# Altium footprint library ST-Microelectronics Footprints.PcbLib: 320 footprints (part 13 of 20)
Each footprint in its own frame and in the unit in brackets; x right, y up, seen from the top. Pads: shape width x height; smd on the part's side, far side on the other; paste and mask are expansions set on the pad; w line width, h text height; cw(c..) or ccw(c..) is an arc to the next point about the centre after c.
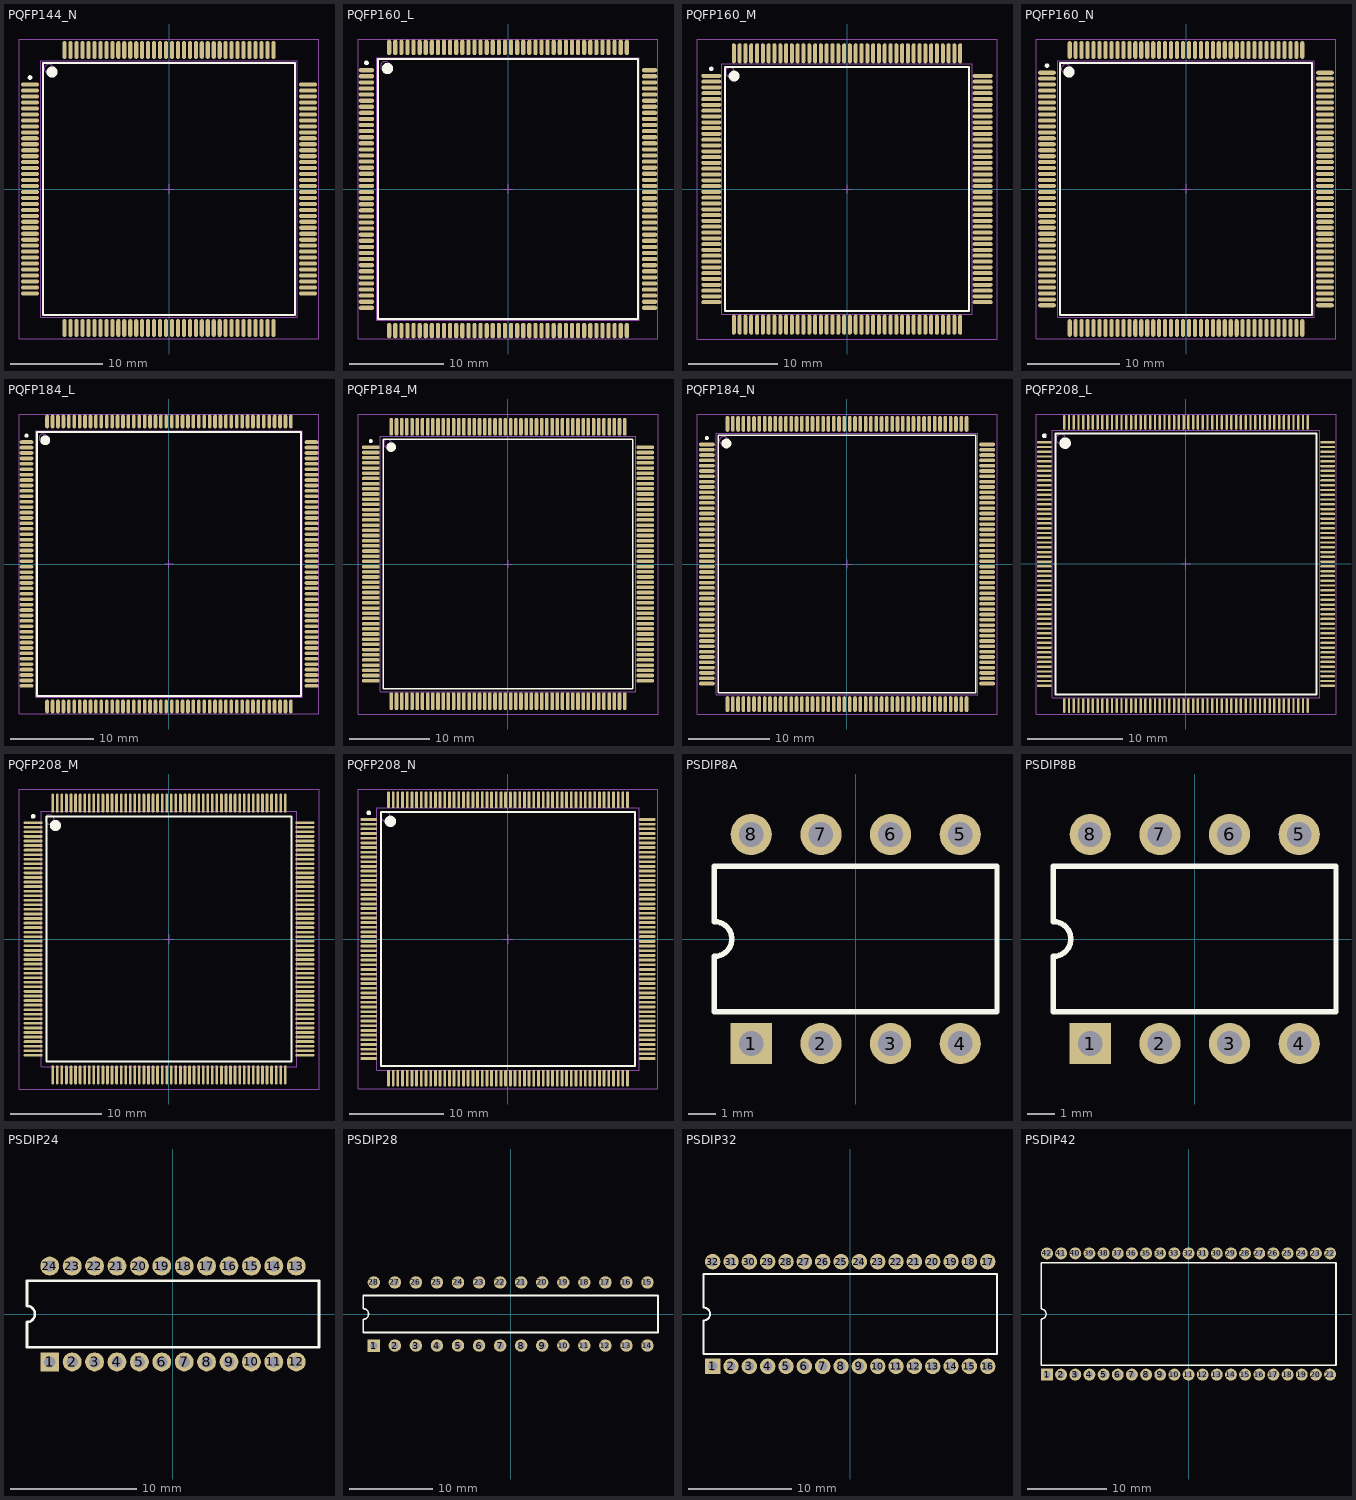
[diagram p12: the footprints below, top view; thin cyan lines are the x and y axes]

## PQFP144_N [mm] "144-Pin Quad Flat Pack 0.65 mm Pitch, IPC Medium Density"
height 4.07
pads (144):
  oval 1.95x0.45 smd: 1(-15.15,11.375) 2(-15.15,10.725) 3(-15.15,10.075) 4(-15.15,9.425) 5(-15.15,8.775) 6(-15.15,8.125) 7(-15.15,7.475) 8(-15.15,6.825) 9(-15.15,6.175) 10(-15.15,5.525) 11(-15.15,4.875) 12(-15.15,4.225) 13(-15.15,3.575) 14(-15.15,2.925) 15(-15.15,2.275) 16(-15.15,1.625) 17(-15.15,0.975) 18(-15.15,0.325) 19(-15.15,-0.325) 20(-15.15,-0.975) 21(-15.15,-1.625) 22(-15.15,-2.275) 23(-15.15,-2.925) 24(-15.15,-3.575) 25(-15.15,-4.225) 26(-15.15,-4.875) 27(-15.15,-5.525) 28(-15.15,-6.175) 29(-15.15,-6.825) 30(-15.15,-7.475) 31(-15.15,-8.125) 32(-15.15,-8.775) 33(-15.15,-9.425) 34(-15.15,-10.075) 35(-15.15,-10.725) 36(-15.15,-11.375) 73(15.15,-11.375) 74(15.15,-10.725) 75(15.15,-10.075) 76(15.15,-9.425) 77(15.15,-8.775) 78(15.15,-8.125) 79(15.15,-7.475) 80(15.15,-6.825) 81(15.15,-6.175) 82(15.15,-5.525) 83(15.15,-4.875) 84(15.15,-4.225) 85(15.15,-3.575) 86(15.15,-2.925) 87(15.15,-2.275) 88(15.15,-1.625) 89(15.15,-0.975) 90(15.15,-0.325) 91(15.15,0.325) 92(15.15,0.975) 93(15.15,1.625) 94(15.15,2.275) 95(15.15,2.925) 96(15.15,3.575) 97(15.15,4.225) 98(15.15,4.875) 99(15.15,5.525) 100(15.15,6.175) 101(15.15,6.825) 102(15.15,7.475) 103(15.15,8.125) 104(15.15,8.775) 105(15.15,9.425) 106(15.15,10.075) 107(15.15,10.725) 108(15.15,11.375)
  oval 0.45x1.95 smd: 37(-11.375,-15.15) 38(-10.725,-15.15) 39(-10.075,-15.15) 40(-9.425,-15.15) 41(-8.775,-15.15) 42(-8.125,-15.15) 43(-7.475,-15.15) 44(-6.825,-15.15) 45(-6.175,-15.15) 46(-5.525,-15.15) 47(-4.875,-15.15) 48(-4.225,-15.15) 49(-3.575,-15.15) 50(-2.925,-15.15) 51(-2.275,-15.15) 52(-1.625,-15.15) 53(-0.975,-15.15) 54(-0.325,-15.15) 55(0.325,-15.15) 56(0.975,-15.15) 57(1.625,-15.15) 58(2.275,-15.15) 59(2.925,-15.15) 60(3.575,-15.15) 61(4.225,-15.15) 62(4.875,-15.15) 63(5.525,-15.15) 64(6.175,-15.15) 65(6.825,-15.15) 66(7.475,-15.15) 67(8.125,-15.15) 68(8.775,-15.15) 69(9.425,-15.15) 70(10.075,-15.15) 71(10.725,-15.15) 72(11.375,-15.15) 109(11.375,15.15) 110(10.725,15.15) 111(10.075,15.15) 112(9.425,15.15) 113(8.775,15.15) 114(8.125,15.15) 115(7.475,15.15) 116(6.825,15.15) 117(6.175,15.15) 118(5.525,15.15) 119(4.875,15.15) 120(4.225,15.15) 121(3.575,15.15) 122(2.925,15.15) 123(2.275,15.15) 124(1.625,15.15) 125(0.975,15.15) 126(0.325,15.15) 127(-0.325,15.15) 128(-0.975,15.15) 129(-1.625,15.15) 130(-2.275,15.15) 131(-2.925,15.15) 132(-3.575,15.15) 133(-4.225,15.15) 134(-4.875,15.15) 135(-5.525,15.15) 136(-6.175,15.15) 137(-6.825,15.15) 138(-7.475,15.15) 139(-8.125,15.15) 140(-8.775,15.15) 141(-9.425,15.15) 142(-10.075,15.15) 143(-10.725,15.15) 144(-11.375,15.15)
Top Overlay:
  circle w0.6: c-12.75,12.75 r0.3
  circle w0.25: c-15.15,12.15 r0.125
  lines w0.2: -13.75,-13.75 13.75,-13.75 13.75,13.75 -13.75,13.75 -13.75,-13.75
Mechanical 13:
  circle w0.1: c-13.1,13.1 r0.5
  lines w0.1: -14,-14 14,-14 14,14 -14,14 -14,-14
Mechanical 15:
  lines w0.1: -0.5,0 0.5,0 ; 0,-0.5 0,0.5 ; -16.35,-16.35 16.35,-16.35 16.35,16.35 -16.35,16.35 -16.35,-16.35
3D body: height 4.07, standoff 0, extent -14,-14 14,14

## PQFP160_L [mm] "160-Pin Plastic Quad Flat Pack 0.65 mm Pitch, IPC High Density"
height 4.07
pads (160):
  oval 1.65x0.45 smd: 1(-15.1,12.675) 2(-15.1,12.025) 3(-15.1,11.375) 4(-15.1,10.725) 5(-15.1,10.075) 6(-15.1,9.425) 7(-15.1,8.775) 8(-15.1,8.125) 9(-15.1,7.475) 10(-15.1,6.825) 11(-15.1,6.175) 12(-15.1,5.525) 13(-15.1,4.875) 14(-15.1,4.225) 15(-15.1,3.575) 16(-15.1,2.925) 17(-15.1,2.275) 18(-15.1,1.625) 19(-15.1,0.975) 20(-15.1,0.325) 21(-15.1,-0.325) 22(-15.1,-0.975) 23(-15.1,-1.625) 24(-15.1,-2.275) 25(-15.1,-2.925) 26(-15.1,-3.575) 27(-15.1,-4.225) 28(-15.1,-4.875) 29(-15.1,-5.525) 30(-15.1,-6.175) 31(-15.1,-6.825) 32(-15.1,-7.475) 33(-15.1,-8.125) 34(-15.1,-8.775) 35(-15.1,-9.425) 36(-15.1,-10.075) 37(-15.1,-10.725) 38(-15.1,-11.375) 39(-15.1,-12.025) 40(-15.1,-12.675) 81(15.1,-12.675) 82(15.1,-12.025) 83(15.1,-11.375) 84(15.1,-10.725) 85(15.1,-10.075) 86(15.1,-9.425) 87(15.1,-8.775) 88(15.1,-8.125) 89(15.1,-7.475) 90(15.1,-6.825) 91(15.1,-6.175) 92(15.1,-5.525) 93(15.1,-4.875) 94(15.1,-4.225) 95(15.1,-3.575) 96(15.1,-2.925) 97(15.1,-2.275) 98(15.1,-1.625) 99(15.1,-0.975) 100(15.1,-0.325) 101(15.1,0.325) 102(15.1,0.975) 103(15.1,1.625) 104(15.1,2.275) 105(15.1,2.925) 106(15.1,3.575) 107(15.1,4.225) 108(15.1,4.875) 109(15.1,5.525) 110(15.1,6.175) 111(15.1,6.825) 112(15.1,7.475) 113(15.1,8.125) 114(15.1,8.775) 115(15.1,9.425) 116(15.1,10.075) 117(15.1,10.725) 118(15.1,11.375) 119(15.1,12.025) 120(15.1,12.675)
  oval 0.45x1.65 smd: 41(-12.675,-15.1) 42(-12.025,-15.1) 43(-11.375,-15.1) 44(-10.725,-15.1) 45(-10.075,-15.1) 46(-9.425,-15.1) 47(-8.775,-15.1) 48(-8.125,-15.1) 49(-7.475,-15.1) 50(-6.825,-15.1) 51(-6.175,-15.1) 52(-5.525,-15.1) 53(-4.875,-15.1) 54(-4.225,-15.1) 55(-3.575,-15.1) 56(-2.925,-15.1) 57(-2.275,-15.1) 58(-1.625,-15.1) 59(-0.975,-15.1) 60(-0.325,-15.1) 61(0.325,-15.1) 62(0.975,-15.1) 63(1.625,-15.1) 64(2.275,-15.1) 65(2.925,-15.1) 66(3.575,-15.1) 67(4.225,-15.1) 68(4.875,-15.1) 69(5.525,-15.1) 70(6.175,-15.1) 71(6.825,-15.1) 72(7.475,-15.1) 73(8.125,-15.1) 74(8.775,-15.1) 75(9.425,-15.1) 76(10.075,-15.1) 77(10.725,-15.1) 78(11.375,-15.1) 79(12.025,-15.1) 80(12.675,-15.1) 121(12.675,15.1) 122(12.025,15.1) 123(11.375,15.1) 124(10.725,15.1) 125(10.075,15.1) 126(9.425,15.1) 127(8.775,15.1) 128(8.125,15.1) 129(7.475,15.1) 130(6.825,15.1) 131(6.175,15.1) 132(5.525,15.1) 133(4.875,15.1) 134(4.225,15.1) 135(3.575,15.1) 136(2.925,15.1) 137(2.275,15.1) 138(1.625,15.1) 139(0.975,15.1) 140(0.325,15.1) 141(-0.325,15.1) 142(-0.975,15.1) 143(-1.625,15.1) 144(-2.275,15.1) 145(-2.925,15.1) 146(-3.575,15.1) 147(-4.225,15.1) 148(-4.875,15.1) 149(-5.525,15.1) 150(-6.175,15.1) 151(-6.825,15.1) 152(-7.475,15.1) 153(-8.125,15.1) 154(-8.775,15.1) 155(-9.425,15.1) 156(-10.075,15.1) 157(-10.725,15.1) 158(-11.375,15.1) 159(-12.025,15.1) 160(-12.675,15.1)
Top Overlay:
  circle w0.6: c-12.85,12.85 r0.3
  circle w0.25: c-15.1,13.45 r0.125
  lines w0.2: -13.85,-13.85 13.85,-13.85 13.85,13.85 -13.85,13.85 -13.85,-13.85
Mechanical 13:
  circle w0.1: c-13.1,13.1 r0.5
  lines w0.1: -14,-14 14,-14 14,14 -14,14 -14,-14
Mechanical 15:
  lines w0.1: -0.5,0 0.5,0 ; 0,-0.5 0,0.5 ; -16,-16 16,-16 16,16 -16,16 -16,-16
3D body: height 4.07, standoff 0, extent -14,-14 14,14

## PQFP160_M [mm] "160-Pin Plastic Quad Flat Pack 0.65 mm Pitch, IPC Low Density"
height 4.07
pads (160):
  oval 2.25x0.45 smd: 1(-15.2,12.675) 2(-15.2,12.025) 3(-15.2,11.375) 4(-15.2,10.725) 5(-15.2,10.075) 6(-15.2,9.425) 7(-15.2,8.775) 8(-15.2,8.125) 9(-15.2,7.475) 10(-15.2,6.825) 11(-15.2,6.175) 12(-15.2,5.525) 13(-15.2,4.875) 14(-15.2,4.225) 15(-15.2,3.575) 16(-15.2,2.925) 17(-15.2,2.275) 18(-15.2,1.625) 19(-15.2,0.975) 20(-15.2,0.325) 21(-15.2,-0.325) 22(-15.2,-0.975) 23(-15.2,-1.625) 24(-15.2,-2.275) 25(-15.2,-2.925) 26(-15.2,-3.575) 27(-15.2,-4.225) 28(-15.2,-4.875) 29(-15.2,-5.525) 30(-15.2,-6.175) 31(-15.2,-6.825) 32(-15.2,-7.475) 33(-15.2,-8.125) 34(-15.2,-8.775) 35(-15.2,-9.425) 36(-15.2,-10.075) 37(-15.2,-10.725) 38(-15.2,-11.375) 39(-15.2,-12.025) 40(-15.2,-12.675) 81(15.2,-12.675) 82(15.2,-12.025) 83(15.2,-11.375) 84(15.2,-10.725) 85(15.2,-10.075) 86(15.2,-9.425) 87(15.2,-8.775) 88(15.2,-8.125) 89(15.2,-7.475) 90(15.2,-6.825) 91(15.2,-6.175) 92(15.2,-5.525) 93(15.2,-4.875) 94(15.2,-4.225) 95(15.2,-3.575) 96(15.2,-2.925) 97(15.2,-2.275) 98(15.2,-1.625) 99(15.2,-0.975) 100(15.2,-0.325) 101(15.2,0.325) 102(15.2,0.975) 103(15.2,1.625) 104(15.2,2.275) 105(15.2,2.925) 106(15.2,3.575) 107(15.2,4.225) 108(15.2,4.875) 109(15.2,5.525) 110(15.2,6.175) 111(15.2,6.825) 112(15.2,7.475) 113(15.2,8.125) 114(15.2,8.775) 115(15.2,9.425) 116(15.2,10.075) 117(15.2,10.725) 118(15.2,11.375) 119(15.2,12.025) 120(15.2,12.675)
  oval 0.45x2.25 smd: 41(-12.675,-15.2) 42(-12.025,-15.2) 43(-11.375,-15.2) 44(-10.725,-15.2) 45(-10.075,-15.2) 46(-9.425,-15.2) 47(-8.775,-15.2) 48(-8.125,-15.2) 49(-7.475,-15.2) 50(-6.825,-15.2) 51(-6.175,-15.2) 52(-5.525,-15.2) 53(-4.875,-15.2) 54(-4.225,-15.2) 55(-3.575,-15.2) 56(-2.925,-15.2) 57(-2.275,-15.2) 58(-1.625,-15.2) 59(-0.975,-15.2) 60(-0.325,-15.2) 61(0.325,-15.2) 62(0.975,-15.2) 63(1.625,-15.2) 64(2.275,-15.2) 65(2.925,-15.2) 66(3.575,-15.2) 67(4.225,-15.2) 68(4.875,-15.2) 69(5.525,-15.2) 70(6.175,-15.2) 71(6.825,-15.2) 72(7.475,-15.2) 73(8.125,-15.2) 74(8.775,-15.2) 75(9.425,-15.2) 76(10.075,-15.2) 77(10.725,-15.2) 78(11.375,-15.2) 79(12.025,-15.2) 80(12.675,-15.2) 121(12.675,15.2) 122(12.025,15.2) 123(11.375,15.2) 124(10.725,15.2) 125(10.075,15.2) 126(9.425,15.2) 127(8.775,15.2) 128(8.125,15.2) 129(7.475,15.2) 130(6.825,15.2) 131(6.175,15.2) 132(5.525,15.2) 133(4.875,15.2) 134(4.225,15.2) 135(3.575,15.2) 136(2.925,15.2) 137(2.275,15.2) 138(1.625,15.2) 139(0.975,15.2) 140(0.325,15.2) 141(-0.325,15.2) 142(-0.975,15.2) 143(-1.625,15.2) 144(-2.275,15.2) 145(-2.925,15.2) 146(-3.575,15.2) 147(-4.225,15.2) 148(-4.875,15.2) 149(-5.525,15.2) 150(-6.175,15.2) 151(-6.825,15.2) 152(-7.475,15.2) 153(-8.125,15.2) 154(-8.775,15.2) 155(-9.425,15.2) 156(-10.075,15.2) 157(-10.725,15.2) 158(-11.375,15.2) 159(-12.025,15.2) 160(-12.675,15.2)
Top Overlay:
  circle w0.6: c-12.65,12.65 r0.3
  circle w0.25: c-15.2,13.45 r0.125
  lines w0.2: -13.65,-13.65 13.65,-13.65 13.65,13.65 -13.65,13.65 -13.65,-13.65
Mechanical 13:
  circle w0.1: c-13.1,13.1 r0.5
  lines w0.1: -14,-14 14,-14 14,14 -14,14 -14,-14
Mechanical 15:
  lines w0.1: -0.5,0 0.5,0 ; 0,-0.5 0,0.5 ; -16.8,-16.8 16.8,-16.8 16.8,16.8 -16.8,16.8 -16.8,-16.8
3D body: height 4.07, standoff 0, extent -14,-14 14,14

## PQFP160_N [mm] "160-Pin Plastic Quad Flat Pack 0.65 mm Pitch, IPC Medium Density"
height 4.07
pads (160):
  oval 1.95x0.45 smd: 1(-15.15,12.675) 2(-15.15,12.025) 3(-15.15,11.375) 4(-15.15,10.725) 5(-15.15,10.075) 6(-15.15,9.425) 7(-15.15,8.775) 8(-15.15,8.125) 9(-15.15,7.475) 10(-15.15,6.825) 11(-15.15,6.175) 12(-15.15,5.525) 13(-15.15,4.875) 14(-15.15,4.225) 15(-15.15,3.575) 16(-15.15,2.925) 17(-15.15,2.275) 18(-15.15,1.625) 19(-15.15,0.975) 20(-15.15,0.325) 21(-15.15,-0.325) 22(-15.15,-0.975) 23(-15.15,-1.625) 24(-15.15,-2.275) 25(-15.15,-2.925) 26(-15.15,-3.575) 27(-15.15,-4.225) 28(-15.15,-4.875) 29(-15.15,-5.525) 30(-15.15,-6.175) 31(-15.15,-6.825) 32(-15.15,-7.475) 33(-15.15,-8.125) 34(-15.15,-8.775) 35(-15.15,-9.425) 36(-15.15,-10.075) 37(-15.15,-10.725) 38(-15.15,-11.375) 39(-15.15,-12.025) 40(-15.15,-12.675) 81(15.15,-12.675) 82(15.15,-12.025) 83(15.15,-11.375) 84(15.15,-10.725) 85(15.15,-10.075) 86(15.15,-9.425) 87(15.15,-8.775) 88(15.15,-8.125) 89(15.15,-7.475) 90(15.15,-6.825) 91(15.15,-6.175) 92(15.15,-5.525) 93(15.15,-4.875) 94(15.15,-4.225) 95(15.15,-3.575) 96(15.15,-2.925) 97(15.15,-2.275) 98(15.15,-1.625) 99(15.15,-0.975) 100(15.15,-0.325) 101(15.15,0.325) 102(15.15,0.975) 103(15.15,1.625) 104(15.15,2.275) 105(15.15,2.925) 106(15.15,3.575) 107(15.15,4.225) 108(15.15,4.875) 109(15.15,5.525) 110(15.15,6.175) 111(15.15,6.825) 112(15.15,7.475) 113(15.15,8.125) 114(15.15,8.775) 115(15.15,9.425) 116(15.15,10.075) 117(15.15,10.725) 118(15.15,11.375) 119(15.15,12.025) 120(15.15,12.675)
  oval 0.45x1.95 smd: 41(-12.675,-15.15) 42(-12.025,-15.15) 43(-11.375,-15.15) 44(-10.725,-15.15) 45(-10.075,-15.15) 46(-9.425,-15.15) 47(-8.775,-15.15) 48(-8.125,-15.15) 49(-7.475,-15.15) 50(-6.825,-15.15) 51(-6.175,-15.15) 52(-5.525,-15.15) 53(-4.875,-15.15) 54(-4.225,-15.15) 55(-3.575,-15.15) 56(-2.925,-15.15) 57(-2.275,-15.15) 58(-1.625,-15.15) 59(-0.975,-15.15) 60(-0.325,-15.15) 61(0.325,-15.15) 62(0.975,-15.15) 63(1.625,-15.15) 64(2.275,-15.15) 65(2.925,-15.15) 66(3.575,-15.15) 67(4.225,-15.15) 68(4.875,-15.15) 69(5.525,-15.15) 70(6.175,-15.15) 71(6.825,-15.15) 72(7.475,-15.15) 73(8.125,-15.15) 74(8.775,-15.15) 75(9.425,-15.15) 76(10.075,-15.15) 77(10.725,-15.15) 78(11.375,-15.15) 79(12.025,-15.15) 80(12.675,-15.15) 121(12.675,15.15) 122(12.025,15.15) 123(11.375,15.15) 124(10.725,15.15) 125(10.075,15.15) 126(9.425,15.15) 127(8.775,15.15) 128(8.125,15.15) 129(7.475,15.15) 130(6.825,15.15) 131(6.175,15.15) 132(5.525,15.15) 133(4.875,15.15) 134(4.225,15.15) 135(3.575,15.15) 136(2.925,15.15) 137(2.275,15.15) 138(1.625,15.15) 139(0.975,15.15) 140(0.325,15.15) 141(-0.325,15.15) 142(-0.975,15.15) 143(-1.625,15.15) 144(-2.275,15.15) 145(-2.925,15.15) 146(-3.575,15.15) 147(-4.225,15.15) 148(-4.875,15.15) 149(-5.525,15.15) 150(-6.175,15.15) 151(-6.825,15.15) 152(-7.475,15.15) 153(-8.125,15.15) 154(-8.775,15.15) 155(-9.425,15.15) 156(-10.075,15.15) 157(-10.725,15.15) 158(-11.375,15.15) 159(-12.025,15.15) 160(-12.675,15.15)
Top Overlay:
  circle w0.6: c-12.75,12.75 r0.3
  circle w0.25: c-15.15,13.45 r0.125
  lines w0.2: -13.75,-13.75 13.75,-13.75 13.75,13.75 -13.75,13.75 -13.75,-13.75
Mechanical 13:
  circle w0.1: c-13.1,13.1 r0.5
  lines w0.1: -14,-14 14,-14 14,14 -14,14 -14,-14
Mechanical 15:
  lines w0.1: -0.5,0 0.5,0 ; 0,-0.5 0,0.5 ; -16.35,-16.35 16.35,-16.35 16.35,16.35 -16.35,16.35 -16.35,-16.35
3D body: height 4.07, standoff 0, extent -14,-14 14,14

## PQFP184_L [mm] "184-Pin Plastic Quad Flat Pack 0.65 mm Pitch, IPC High Density"
height 4.5
pads (184):
  oval 1.65x0.45 smd: 1(-17.1,14.625) 2(-17.1,13.975) 3(-17.1,13.325) 4(-17.1,12.675) 5(-17.1,12.025) 6(-17.1,11.375) 7(-17.1,10.725) 8(-17.1,10.075) 9(-17.1,9.425) 10(-17.1,8.775) 11(-17.1,8.125) 12(-17.1,7.475) 13(-17.1,6.825) 14(-17.1,6.175) 15(-17.1,5.525) 16(-17.1,4.875) 17(-17.1,4.225) 18(-17.1,3.575) 19(-17.1,2.925) 20(-17.1,2.275) 21(-17.1,1.625) 22(-17.1,0.975) 23(-17.1,0.325) 24(-17.1,-0.325) 25(-17.1,-0.975) 26(-17.1,-1.625) 27(-17.1,-2.275) 28(-17.1,-2.925) 29(-17.1,-3.575) 30(-17.1,-4.225) 31(-17.1,-4.875) 32(-17.1,-5.525) 33(-17.1,-6.175) 34(-17.1,-6.825) 35(-17.1,-7.475) 36(-17.1,-8.125) 37(-17.1,-8.775) 38(-17.1,-9.425) 39(-17.1,-10.075) 40(-17.1,-10.725) 41(-17.1,-11.375) 42(-17.1,-12.025) 43(-17.1,-12.675) 44(-17.1,-13.325) 45(-17.1,-13.975) 46(-17.1,-14.625) 93(17.1,-14.625) 94(17.1,-13.975) 95(17.1,-13.325) 96(17.1,-12.675) 97(17.1,-12.025) 98(17.1,-11.375) 99(17.1,-10.725) 100(17.1,-10.075) 101(17.1,-9.425) 102(17.1,-8.775) 103(17.1,-8.125) 104(17.1,-7.475) 105(17.1,-6.825) 106(17.1,-6.175) 107(17.1,-5.525) 108(17.1,-4.875) 109(17.1,-4.225) 110(17.1,-3.575) 111(17.1,-2.925) 112(17.1,-2.275) 113(17.1,-1.625) 114(17.1,-0.975) 115(17.1,-0.325) 116(17.1,0.325) 117(17.1,0.975) 118(17.1,1.625) 119(17.1,2.275) 120(17.1,2.925) 121(17.1,3.575) 122(17.1,4.225) 123(17.1,4.875) 124(17.1,5.525) 125(17.1,6.175) 126(17.1,6.825) 127(17.1,7.475) 128(17.1,8.125) 129(17.1,8.775) 130(17.1,9.425) 131(17.1,10.075) 132(17.1,10.725) 133(17.1,11.375) 134(17.1,12.025) 135(17.1,12.675) 136(17.1,13.325) 137(17.1,13.975) 138(17.1,14.625)
  oval 0.45x1.65 smd: 47(-14.625,-17.1) 48(-13.975,-17.1) 49(-13.325,-17.1) 50(-12.675,-17.1) 51(-12.025,-17.1) 52(-11.375,-17.1) 53(-10.725,-17.1) 54(-10.075,-17.1) 55(-9.425,-17.1) 56(-8.775,-17.1) 57(-8.125,-17.1) 58(-7.475,-17.1) 59(-6.825,-17.1) 60(-6.175,-17.1) 61(-5.525,-17.1) 62(-4.875,-17.1) 63(-4.225,-17.1) 64(-3.575,-17.1) 65(-2.925,-17.1) 66(-2.275,-17.1) 67(-1.625,-17.1) 68(-0.975,-17.1) 69(-0.325,-17.1) 70(0.325,-17.1) 71(0.975,-17.1) 72(1.625,-17.1) 73(2.275,-17.1) 74(2.925,-17.1) 75(3.575,-17.1) 76(4.225,-17.1) 77(4.875,-17.1) 78(5.525,-17.1) 79(6.175,-17.1) 80(6.825,-17.1) 81(7.475,-17.1) 82(8.125,-17.1) 83(8.775,-17.1) 84(9.425,-17.1) 85(10.075,-17.1) 86(10.725,-17.1) 87(11.375,-17.1) 88(12.025,-17.1) 89(12.675,-17.1) 90(13.325,-17.1) 91(13.975,-17.1) 92(14.625,-17.1) 139(14.625,17.1) 140(13.975,17.1) 141(13.325,17.1) 142(12.675,17.1) 143(12.025,17.1) 144(11.375,17.1) 145(10.725,17.1) 146(10.075,17.1) 147(9.425,17.1) 148(8.775,17.1) 149(8.125,17.1) 150(7.475,17.1) 151(6.825,17.1) 152(6.175,17.1) 153(5.525,17.1) 154(4.875,17.1) 155(4.225,17.1) 156(3.575,17.1) 157(2.925,17.1) 158(2.275,17.1) 159(1.625,17.1) 160(0.975,17.1) 161(0.325,17.1) 162(-0.325,17.1) 163(-0.975,17.1) 164(-1.625,17.1) 165(-2.275,17.1) 166(-2.925,17.1) 167(-3.575,17.1) 168(-4.225,17.1) 169(-4.875,17.1) 170(-5.525,17.1) 171(-6.175,17.1) 172(-6.825,17.1) 173(-7.475,17.1) 174(-8.125,17.1) 175(-8.775,17.1) 176(-9.425,17.1) 177(-10.075,17.1) 178(-10.725,17.1) 179(-11.375,17.1) 180(-12.025,17.1) 181(-12.675,17.1) 182(-13.325,17.1) 183(-13.975,17.1) 184(-14.625,17.1)
Top Overlay:
  circle w0.6: c-14.85,14.85 r0.3
  circle w0.25: c-17.1,15.4 r0.125
  lines w0.2: -15.85,-15.85 15.85,-15.85 15.85,15.85 -15.85,15.85 -15.85,-15.85
Mechanical 13:
  circle w0.1: c-15.1,15.1 r0.5
  lines w0.1: -16,-16 16,-16 16,16 -16,16 -16,-16
Mechanical 15:
  lines w0.1: -0.5,0 0.5,0 ; 0,-0.5 0,0.5 ; -18,-18 18,-18 18,18 -18,18 -18,-18
3D body: height 4.5, standoff 0, extent -16,-16 16,16

## PQFP184_M [mm] "184-Pin Plastic Quad Flat Pack 0.65 mm Pitch, IPC Low Density"
height 4.5
pads (184):
  oval 2.25x0.45 smd: 1(-17.2,14.625) 2(-17.2,13.975) 3(-17.2,13.325) 4(-17.2,12.675) 5(-17.2,12.025) 6(-17.2,11.375) 7(-17.2,10.725) 8(-17.2,10.075) 9(-17.2,9.425) 10(-17.2,8.775) 11(-17.2,8.125) 12(-17.2,7.475) 13(-17.2,6.825) 14(-17.2,6.175) 15(-17.2,5.525) 16(-17.2,4.875) 17(-17.2,4.225) 18(-17.2,3.575) 19(-17.2,2.925) 20(-17.2,2.275) 21(-17.2,1.625) 22(-17.2,0.975) 23(-17.2,0.325) 24(-17.2,-0.325) 25(-17.2,-0.975) 26(-17.2,-1.625) 27(-17.2,-2.275) 28(-17.2,-2.925) 29(-17.2,-3.575) 30(-17.2,-4.225) 31(-17.2,-4.875) 32(-17.2,-5.525) 33(-17.2,-6.175) 34(-17.2,-6.825) 35(-17.2,-7.475) 36(-17.2,-8.125) 37(-17.2,-8.775) 38(-17.2,-9.425) 39(-17.2,-10.075) 40(-17.2,-10.725) 41(-17.2,-11.375) 42(-17.2,-12.025) 43(-17.2,-12.675) 44(-17.2,-13.325) 45(-17.2,-13.975) 46(-17.2,-14.625) 93(17.2,-14.625) 94(17.2,-13.975) 95(17.2,-13.325) 96(17.2,-12.675) 97(17.2,-12.025) 98(17.2,-11.375) 99(17.2,-10.725) 100(17.2,-10.075) 101(17.2,-9.425) 102(17.2,-8.775) 103(17.2,-8.125) 104(17.2,-7.475) 105(17.2,-6.825) 106(17.2,-6.175) 107(17.2,-5.525) 108(17.2,-4.875) 109(17.2,-4.225) 110(17.2,-3.575) 111(17.2,-2.925) 112(17.2,-2.275) 113(17.2,-1.625) 114(17.2,-0.975) 115(17.2,-0.325) 116(17.2,0.325) 117(17.2,0.975) 118(17.2,1.625) 119(17.2,2.275) 120(17.2,2.925) 121(17.2,3.575) 122(17.2,4.225) 123(17.2,4.875) 124(17.2,5.525) 125(17.2,6.175) 126(17.2,6.825) 127(17.2,7.475) 128(17.2,8.125) 129(17.2,8.775) 130(17.2,9.425) 131(17.2,10.075) 132(17.2,10.725) 133(17.2,11.375) 134(17.2,12.025) 135(17.2,12.675) 136(17.2,13.325) 137(17.2,13.975) 138(17.2,14.625)
  oval 0.45x2.25 smd: 47(-14.625,-17.2) 48(-13.975,-17.2) 49(-13.325,-17.2) 50(-12.675,-17.2) 51(-12.025,-17.2) 52(-11.375,-17.2) 53(-10.725,-17.2) 54(-10.075,-17.2) 55(-9.425,-17.2) 56(-8.775,-17.2) 57(-8.125,-17.2) 58(-7.475,-17.2) 59(-6.825,-17.2) 60(-6.175,-17.2) 61(-5.525,-17.2) 62(-4.875,-17.2) 63(-4.225,-17.2) 64(-3.575,-17.2) 65(-2.925,-17.2) 66(-2.275,-17.2) 67(-1.625,-17.2) 68(-0.975,-17.2) 69(-0.325,-17.2) 70(0.325,-17.2) 71(0.975,-17.2) 72(1.625,-17.2) 73(2.275,-17.2) 74(2.925,-17.2) 75(3.575,-17.2) 76(4.225,-17.2) 77(4.875,-17.2) 78(5.525,-17.2) 79(6.175,-17.2) 80(6.825,-17.2) 81(7.475,-17.2) 82(8.125,-17.2) 83(8.775,-17.2) 84(9.425,-17.2) 85(10.075,-17.2) 86(10.725,-17.2) 87(11.375,-17.2) 88(12.025,-17.2) 89(12.675,-17.2) 90(13.325,-17.2) 91(13.975,-17.2) 92(14.625,-17.2) 139(14.625,17.2) 140(13.975,17.2) 141(13.325,17.2) 142(12.675,17.2) 143(12.025,17.2) 144(11.375,17.2) 145(10.725,17.2) 146(10.075,17.2) 147(9.425,17.2) 148(8.775,17.2) 149(8.125,17.2) 150(7.475,17.2) 151(6.825,17.2) 152(6.175,17.2) 153(5.525,17.2) 154(4.875,17.2) 155(4.225,17.2) 156(3.575,17.2) 157(2.925,17.2) 158(2.275,17.2) 159(1.625,17.2) 160(0.975,17.2) 161(0.325,17.2) 162(-0.325,17.2) 163(-0.975,17.2) 164(-1.625,17.2) 165(-2.275,17.2) 166(-2.925,17.2) 167(-3.575,17.2) 168(-4.225,17.2) 169(-4.875,17.2) 170(-5.525,17.2) 171(-6.175,17.2) 172(-6.825,17.2) 173(-7.475,17.2) 174(-8.125,17.2) 175(-8.775,17.2) 176(-9.425,17.2) 177(-10.075,17.2) 178(-10.725,17.2) 179(-11.375,17.2) 180(-12.025,17.2) 181(-12.675,17.2) 182(-13.325,17.2) 183(-13.975,17.2) 184(-14.625,17.2)
Top Overlay:
  circle w0.6: c-14.65,14.65 r0.3
  circle w0.25: c-17.2,15.4 r0.125
  lines w0.2: -15.65,-15.65 15.65,-15.65 15.65,15.65 -15.65,15.65 -15.65,-15.65
Mechanical 13:
  circle w0.1: c-15.1,15.1 r0.5
  lines w0.1: -16,-16 16,-16 16,16 -16,16 -16,-16
Mechanical 15:
  lines w0.1: -0.5,0 0.5,0 ; 0,-0.5 0,0.5 ; -18.8,-18.8 18.8,-18.8 18.8,18.8 -18.8,18.8 -18.8,-18.8
3D body: height 4.5, standoff 0, extent -16,-16 16,16

## PQFP184_N [mm] "184-Pin Plastic Quad Flat Pack 0.65 mm Pitch, IPC Medium Density"
height 4.5
pads (184):
  oval 1.95x0.45 smd: 1(-17.15,14.625) 2(-17.15,13.975) 3(-17.15,13.325) 4(-17.15,12.675) 5(-17.15,12.025) 6(-17.15,11.375) 7(-17.15,10.725) 8(-17.15,10.075) 9(-17.15,9.425) 10(-17.15,8.775) 11(-17.15,8.125) 12(-17.15,7.475) 13(-17.15,6.825) 14(-17.15,6.175) 15(-17.15,5.525) 16(-17.15,4.875) 17(-17.15,4.225) 18(-17.15,3.575) 19(-17.15,2.925) 20(-17.15,2.275) 21(-17.15,1.625) 22(-17.15,0.975) 23(-17.15,0.325) 24(-17.15,-0.325) 25(-17.15,-0.975) 26(-17.15,-1.625) 27(-17.15,-2.275) 28(-17.15,-2.925) 29(-17.15,-3.575) 30(-17.15,-4.225) 31(-17.15,-4.875) 32(-17.15,-5.525) 33(-17.15,-6.175) 34(-17.15,-6.825) 35(-17.15,-7.475) 36(-17.15,-8.125) 37(-17.15,-8.775) 38(-17.15,-9.425) 39(-17.15,-10.075) 40(-17.15,-10.725) 41(-17.15,-11.375) 42(-17.15,-12.025) 43(-17.15,-12.675) 44(-17.15,-13.325) 45(-17.15,-13.975) 46(-17.15,-14.625) 93(17.15,-14.625) 94(17.15,-13.975) 95(17.15,-13.325) 96(17.15,-12.675) 97(17.15,-12.025) 98(17.15,-11.375) 99(17.15,-10.725) 100(17.15,-10.075) 101(17.15,-9.425) 102(17.15,-8.775) 103(17.15,-8.125) 104(17.15,-7.475) 105(17.15,-6.825) 106(17.15,-6.175) 107(17.15,-5.525) 108(17.15,-4.875) 109(17.15,-4.225) 110(17.15,-3.575) 111(17.15,-2.925) 112(17.15,-2.275) 113(17.15,-1.625) 114(17.15,-0.975) 115(17.15,-0.325) 116(17.15,0.325) 117(17.15,0.975) 118(17.15,1.625) 119(17.15,2.275) 120(17.15,2.925) 121(17.15,3.575) 122(17.15,4.225) 123(17.15,4.875) 124(17.15,5.525) 125(17.15,6.175) 126(17.15,6.825) 127(17.15,7.475) 128(17.15,8.125) 129(17.15,8.775) 130(17.15,9.425) 131(17.15,10.075) 132(17.15,10.725) 133(17.15,11.375) 134(17.15,12.025) 135(17.15,12.675) 136(17.15,13.325) 137(17.15,13.975) 138(17.15,14.625)
  oval 0.45x1.95 smd: 47(-14.625,-17.15) 48(-13.975,-17.15) 49(-13.325,-17.15) 50(-12.675,-17.15) 51(-12.025,-17.15) 52(-11.375,-17.15) 53(-10.725,-17.15) 54(-10.075,-17.15) 55(-9.425,-17.15) 56(-8.775,-17.15) 57(-8.125,-17.15) 58(-7.475,-17.15) 59(-6.825,-17.15) 60(-6.175,-17.15) 61(-5.525,-17.15) 62(-4.875,-17.15) 63(-4.225,-17.15) 64(-3.575,-17.15) 65(-2.925,-17.15) 66(-2.275,-17.15) 67(-1.625,-17.15) 68(-0.975,-17.15) 69(-0.325,-17.15) 70(0.325,-17.15) 71(0.975,-17.15) 72(1.625,-17.15) 73(2.275,-17.15) 74(2.925,-17.15) 75(3.575,-17.15) 76(4.225,-17.15) 77(4.875,-17.15) 78(5.525,-17.15) 79(6.175,-17.15) 80(6.825,-17.15) 81(7.475,-17.15) 82(8.125,-17.15) 83(8.775,-17.15) 84(9.425,-17.15) 85(10.075,-17.15) 86(10.725,-17.15) 87(11.375,-17.15) 88(12.025,-17.15) 89(12.675,-17.15) 90(13.325,-17.15) 91(13.975,-17.15) 92(14.625,-17.15) 139(14.625,17.15) 140(13.975,17.15) 141(13.325,17.15) 142(12.675,17.15) 143(12.025,17.15) 144(11.375,17.15) 145(10.725,17.15) 146(10.075,17.15) 147(9.425,17.15) 148(8.775,17.15) 149(8.125,17.15) 150(7.475,17.15) 151(6.825,17.15) 152(6.175,17.15) 153(5.525,17.15) 154(4.875,17.15) 155(4.225,17.15) 156(3.575,17.15) 157(2.925,17.15) 158(2.275,17.15) 159(1.625,17.15) 160(0.975,17.15) 161(0.325,17.15) 162(-0.325,17.15) 163(-0.975,17.15) 164(-1.625,17.15) 165(-2.275,17.15) 166(-2.925,17.15) 167(-3.575,17.15) 168(-4.225,17.15) 169(-4.875,17.15) 170(-5.525,17.15) 171(-6.175,17.15) 172(-6.825,17.15) 173(-7.475,17.15) 174(-8.125,17.15) 175(-8.775,17.15) 176(-9.425,17.15) 177(-10.075,17.15) 178(-10.725,17.15) 179(-11.375,17.15) 180(-12.025,17.15) 181(-12.675,17.15) 182(-13.325,17.15) 183(-13.975,17.15) 184(-14.625,17.15)
Top Overlay:
  circle w0.6: c-14.75,14.75 r0.3
  circle w0.25: c-17.15,15.4 r0.125
  lines w0.2: -15.75,-15.75 15.75,-15.75 15.75,15.75 -15.75,15.75 -15.75,-15.75
Mechanical 13:
  circle w0.1: c-15.1,15.1 r0.5
  lines w0.1: -16,-16 16,-16 16,16 -16,16 -16,-16
Mechanical 15:
  lines w0.1: -0.5,0 0.5,0 ; 0,-0.5 0,0.5 ; -18.35,-18.35 18.35,-18.35 18.35,18.35 -18.35,18.35 -18.35,-18.35
3D body: height 4.5, standoff 0, extent -16,-16 16,16

## PQFP208_L [mm] "208-Pin Shrink Quad Flat Pack 0.5 mm Pitch, IPC High Density"
height 4.1
pads (208):
  oval 1.55x0.25 smd: 1(-14.825,12.75) 2(-14.825,12.25) 3(-14.825,11.75) 4(-14.825,11.25) 5(-14.825,10.75) 6(-14.825,10.25) 7(-14.825,9.75) 8(-14.825,9.25) 9(-14.825,8.75) 10(-14.825,8.25) 11(-14.825,7.75) 12(-14.825,7.25) 13(-14.825,6.75) 14(-14.825,6.25) 15(-14.825,5.75) 16(-14.825,5.25) 17(-14.825,4.75) 18(-14.825,4.25) 19(-14.825,3.75) 20(-14.825,3.25) 21(-14.825,2.75) 22(-14.825,2.25) 23(-14.825,1.75) 24(-14.825,1.25) 25(-14.825,0.75) 26(-14.825,0.25) 27(-14.825,-0.25) 28(-14.825,-0.75) 29(-14.825,-1.25) 30(-14.825,-1.75) 31(-14.825,-2.25) 32(-14.825,-2.75) 33(-14.825,-3.25) 34(-14.825,-3.75) 35(-14.825,-4.25) 36(-14.825,-4.75) 37(-14.825,-5.25) 38(-14.825,-5.75) 39(-14.825,-6.25) 40(-14.825,-6.75) 41(-14.825,-7.25) 42(-14.825,-7.75) 43(-14.825,-8.25) 44(-14.825,-8.75) 45(-14.825,-9.25) 46(-14.825,-9.75) 47(-14.825,-10.25) 48(-14.825,-10.75) 49(-14.825,-11.25) 50(-14.825,-11.75) 51(-14.825,-12.25) 52(-14.825,-12.75) 105(14.825,-12.75) 106(14.825,-12.25) 107(14.825,-11.75) 108(14.825,-11.25) 109(14.825,-10.75) 110(14.825,-10.25) 111(14.825,-9.75) 112(14.825,-9.25) 113(14.825,-8.75) 114(14.825,-8.25) 115(14.825,-7.75) 116(14.825,-7.25) 117(14.825,-6.75) 118(14.825,-6.25) 119(14.825,-5.75) 120(14.825,-5.25) 121(14.825,-4.75) 122(14.825,-4.25) 123(14.825,-3.75) 124(14.825,-3.25) 125(14.825,-2.75) 126(14.825,-2.25) 127(14.825,-1.75) 128(14.825,-1.25) 129(14.825,-0.75) 130(14.825,-0.25) 131(14.825,0.25) 132(14.825,0.75) 133(14.825,1.25) 134(14.825,1.75) 135(14.825,2.25) 136(14.825,2.75) 137(14.825,3.25) 138(14.825,3.75) 139(14.825,4.25) 140(14.825,4.75) 141(14.825,5.25) 142(14.825,5.75) 143(14.825,6.25) 144(14.825,6.75) 145(14.825,7.25) 146(14.825,7.75) 147(14.825,8.25) 148(14.825,8.75) 149(14.825,9.25) 150(14.825,9.75) 151(14.825,10.25) 152(14.825,10.75) 153(14.825,11.25) 154(14.825,11.75) 155(14.825,12.25) 156(14.825,12.75)
  oval 0.25x1.55 smd: 53(-12.75,-14.825) 54(-12.25,-14.825) 55(-11.75,-14.825) 56(-11.25,-14.825) 57(-10.75,-14.825) 58(-10.25,-14.825) 59(-9.75,-14.825) 60(-9.25,-14.825) 61(-8.75,-14.825) 62(-8.25,-14.825) 63(-7.75,-14.825) 64(-7.25,-14.825) 65(-6.75,-14.825) 66(-6.25,-14.825) 67(-5.75,-14.825) 68(-5.25,-14.825) 69(-4.75,-14.825) 70(-4.25,-14.825) 71(-3.75,-14.825) 72(-3.25,-14.825) 73(-2.75,-14.825) 74(-2.25,-14.825) 75(-1.75,-14.825) 76(-1.25,-14.825) 77(-0.75,-14.825) 78(-0.25,-14.825) 79(0.25,-14.825) 80(0.75,-14.825) 81(1.25,-14.825) 82(1.75,-14.825) 83(2.25,-14.825) 84(2.75,-14.825) 85(3.25,-14.825) 86(3.75,-14.825) 87(4.25,-14.825) 88(4.75,-14.825) 89(5.25,-14.825) 90(5.75,-14.825) 91(6.25,-14.825) 92(6.75,-14.825) 93(7.25,-14.825) 94(7.75,-14.825) 95(8.25,-14.825) 96(8.75,-14.825) 97(9.25,-14.825) 98(9.75,-14.825) 99(10.25,-14.825) 100(10.75,-14.825) 101(11.25,-14.825) 102(11.75,-14.825) 103(12.25,-14.825) 104(12.75,-14.825) 157(12.75,14.825) 158(12.25,14.825) 159(11.75,14.825) 160(11.25,14.825) 161(10.75,14.825) 162(10.25,14.825) 163(9.75,14.825) 164(9.25,14.825) 165(8.75,14.825) 166(8.25,14.825) 167(7.75,14.825) 168(7.25,14.825) 169(6.75,14.825) 170(6.25,14.825) 171(5.75,14.825) 172(5.25,14.825) 173(4.75,14.825) 174(4.25,14.825) 175(3.75,14.825) 176(3.25,14.825) 177(2.75,14.825) 178(2.25,14.825) 179(1.75,14.825) 180(1.25,14.825) 181(0.75,14.825) 182(0.25,14.825) 183(-0.25,14.825) 184(-0.75,14.825) 185(-1.25,14.825) 186(-1.75,14.825) 187(-2.25,14.825) 188(-2.75,14.825) 189(-3.25,14.825) 190(-3.75,14.825) 191(-4.25,14.825) 192(-4.75,14.825) 193(-5.25,14.825) 194(-5.75,14.825) 195(-6.25,14.825) 196(-6.75,14.825) 197(-7.25,14.825) 198(-7.75,14.825) 199(-8.25,14.825) 200(-8.75,14.825) 201(-9.25,14.825) 202(-9.75,14.825) 203(-10.25,14.825) 204(-10.75,14.825) 205(-11.25,14.825) 206(-11.75,14.825) 207(-12.25,14.825) 208(-12.75,14.825)
Top Overlay:
  circle w0.6: c-12.65,12.65 r0.3
  circle w0.25: c-14.825,13.425 r0.125
  lines w0.2: -13.65,-13.65 13.65,-13.65 13.65,13.65 -13.65,13.65 -13.65,-13.65
Mechanical 13:
  circle w0.1: c-13.1,13.1 r0.5
  lines w0.1: -14,-14 14,-14 14,14 -14,14 -14,-14
Mechanical 15:
  lines w0.1: -0.5,0 0.5,0 ; 0,-0.5 0,0.5 ; -15.7,-15.7 15.7,-15.7 15.7,15.7 -15.7,15.7 -15.7,-15.7
3D body: height 4.1, standoff 0, extent -14,-14 14,14

## PQFP208_M [mm] "208-Pin Shrink Quad Flat Pack 0.5 mm Pitch, IPC Low Density"
height 4.1
pads (208):
  oval 2.1x0.3 smd: 1(-14.9,12.75) 2(-14.9,12.25) 3(-14.9,11.75) 4(-14.9,11.25) 5(-14.9,10.75) 6(-14.9,10.25) 7(-14.9,9.75) 8(-14.9,9.25) 9(-14.9,8.75) 10(-14.9,8.25) 11(-14.9,7.75) 12(-14.9,7.25) 13(-14.9,6.75) 14(-14.9,6.25) 15(-14.9,5.75) 16(-14.9,5.25) 17(-14.9,4.75) 18(-14.9,4.25) 19(-14.9,3.75) 20(-14.9,3.25) 21(-14.9,2.75) 22(-14.9,2.25) 23(-14.9,1.75) 24(-14.9,1.25) 25(-14.9,0.75) 26(-14.9,0.25) 27(-14.9,-0.25) 28(-14.9,-0.75) 29(-14.9,-1.25) 30(-14.9,-1.75) 31(-14.9,-2.25) 32(-14.9,-2.75) 33(-14.9,-3.25) 34(-14.9,-3.75) 35(-14.9,-4.25) 36(-14.9,-4.75) 37(-14.9,-5.25) 38(-14.9,-5.75) 39(-14.9,-6.25) 40(-14.9,-6.75) 41(-14.9,-7.25) 42(-14.9,-7.75) 43(-14.9,-8.25) 44(-14.9,-8.75) 45(-14.9,-9.25) 46(-14.9,-9.75) 47(-14.9,-10.25) 48(-14.9,-10.75) 49(-14.9,-11.25) 50(-14.9,-11.75) 51(-14.9,-12.25) 52(-14.9,-12.75) 105(14.9,-12.75) 106(14.9,-12.25) 107(14.9,-11.75) 108(14.9,-11.25) 109(14.9,-10.75) 110(14.9,-10.25) 111(14.9,-9.75) 112(14.9,-9.25) 113(14.9,-8.75) 114(14.9,-8.25) 115(14.9,-7.75) 116(14.9,-7.25) 117(14.9,-6.75) 118(14.9,-6.25) 119(14.9,-5.75) 120(14.9,-5.25) 121(14.9,-4.75) 122(14.9,-4.25) 123(14.9,-3.75) 124(14.9,-3.25) 125(14.9,-2.75) 126(14.9,-2.25) 127(14.9,-1.75) 128(14.9,-1.25) 129(14.9,-0.75) 130(14.9,-0.25) 131(14.9,0.25) 132(14.9,0.75) 133(14.9,1.25) 134(14.9,1.75) 135(14.9,2.25) 136(14.9,2.75) 137(14.9,3.25) 138(14.9,3.75) 139(14.9,4.25) 140(14.9,4.75) 141(14.9,5.25) 142(14.9,5.75) 143(14.9,6.25) 144(14.9,6.75) 145(14.9,7.25) 146(14.9,7.75) 147(14.9,8.25) 148(14.9,8.75) 149(14.9,9.25) 150(14.9,9.75) 151(14.9,10.25) 152(14.9,10.75) 153(14.9,11.25) 154(14.9,11.75) 155(14.9,12.25) 156(14.9,12.75)
  oval 0.3x2.1 smd: 53(-12.75,-14.9) 54(-12.25,-14.9) 55(-11.75,-14.9) 56(-11.25,-14.9) 57(-10.75,-14.9) 58(-10.25,-14.9) 59(-9.75,-14.9) 60(-9.25,-14.9) 61(-8.75,-14.9) 62(-8.25,-14.9) 63(-7.75,-14.9) 64(-7.25,-14.9) 65(-6.75,-14.9) 66(-6.25,-14.9) 67(-5.75,-14.9) 68(-5.25,-14.9) 69(-4.75,-14.9) 70(-4.25,-14.9) 71(-3.75,-14.9) 72(-3.25,-14.9) 73(-2.75,-14.9) 74(-2.25,-14.9) 75(-1.75,-14.9) 76(-1.25,-14.9) 77(-0.75,-14.9) 78(-0.25,-14.9) 79(0.25,-14.9) 80(0.75,-14.9) 81(1.25,-14.9) 82(1.75,-14.9) 83(2.25,-14.9) 84(2.75,-14.9) 85(3.25,-14.9) 86(3.75,-14.9) 87(4.25,-14.9) 88(4.75,-14.9) 89(5.25,-14.9) 90(5.75,-14.9) 91(6.25,-14.9) 92(6.75,-14.9) 93(7.25,-14.9) 94(7.75,-14.9) 95(8.25,-14.9) 96(8.75,-14.9) 97(9.25,-14.9) 98(9.75,-14.9) 99(10.25,-14.9) 100(10.75,-14.9) 101(11.25,-14.9) 102(11.75,-14.9) 103(12.25,-14.9) 104(12.75,-14.9) 157(12.75,14.9) 158(12.25,14.9) 159(11.75,14.9) 160(11.25,14.9) 161(10.75,14.9) 162(10.25,14.9) 163(9.75,14.9) 164(9.25,14.9) 165(8.75,14.9) 166(8.25,14.9) 167(7.75,14.9) 168(7.25,14.9) 169(6.75,14.9) 170(6.25,14.9) 171(5.75,14.9) 172(5.25,14.9) 173(4.75,14.9) 174(4.25,14.9) 175(3.75,14.9) 176(3.25,14.9) 177(2.75,14.9) 178(2.25,14.9) 179(1.75,14.9) 180(1.25,14.9) 181(0.75,14.9) 182(0.25,14.9) 183(-0.25,14.9) 184(-0.75,14.9) 185(-1.25,14.9) 186(-1.75,14.9) 187(-2.25,14.9) 188(-2.75,14.9) 189(-3.25,14.9) 190(-3.75,14.9) 191(-4.25,14.9) 192(-4.75,14.9) 193(-5.25,14.9) 194(-5.75,14.9) 195(-6.25,14.9) 196(-6.75,14.9) 197(-7.25,14.9) 198(-7.75,14.9) 199(-8.25,14.9) 200(-8.75,14.9) 201(-9.25,14.9) 202(-9.75,14.9) 203(-10.25,14.9) 204(-10.75,14.9) 205(-11.25,14.9) 206(-11.75,14.9) 207(-12.25,14.9) 208(-12.75,14.9)
Top Overlay:
  circle w0.6: c-12.45,12.45 r0.3
  circle w0.25: c-14.9,13.45 r0.125
  lines w0.2: -13.45,-13.45 13.45,-13.45 13.45,13.45 -13.45,13.45 -13.45,-13.45
Mechanical 13:
  circle w0.1: c-13.1,13.1 r0.5
  lines w0.1: -14,-14 14,-14 14,14 -14,14 -14,-14
Mechanical 15:
  lines w0.1: -0.5,0 0.5,0 ; 0,-0.5 0,0.5 ; -16.45,-16.45 16.45,-16.45 16.45,16.45 -16.45,16.45 -16.45,-16.45
3D body: height 4.1, standoff 0, extent -14,-14 14,14

## PQFP208_N [mm] "208-Pin Shrink Quad Flat Pack 0.5 mm Pitch, IPC Medium Density"
height 4.1
pads (208):
  oval 1.8x0.3 smd: 1(-14.85,12.75) 2(-14.85,12.25) 3(-14.85,11.75) 4(-14.85,11.25) 5(-14.85,10.75) 6(-14.85,10.25) 7(-14.85,9.75) 8(-14.85,9.25) 9(-14.85,8.75) 10(-14.85,8.25) 11(-14.85,7.75) 12(-14.85,7.25) 13(-14.85,6.75) 14(-14.85,6.25) 15(-14.85,5.75) 16(-14.85,5.25) 17(-14.85,4.75) 18(-14.85,4.25) 19(-14.85,3.75) 20(-14.85,3.25) 21(-14.85,2.75) 22(-14.85,2.25) 23(-14.85,1.75) 24(-14.85,1.25) 25(-14.85,0.75) 26(-14.85,0.25) 27(-14.85,-0.25) 28(-14.85,-0.75) 29(-14.85,-1.25) 30(-14.85,-1.75) 31(-14.85,-2.25) 32(-14.85,-2.75) 33(-14.85,-3.25) 34(-14.85,-3.75) 35(-14.85,-4.25) 36(-14.85,-4.75) 37(-14.85,-5.25) 38(-14.85,-5.75) 39(-14.85,-6.25) 40(-14.85,-6.75) 41(-14.85,-7.25) 42(-14.85,-7.75) 43(-14.85,-8.25) 44(-14.85,-8.75) 45(-14.85,-9.25) 46(-14.85,-9.75) 47(-14.85,-10.25) 48(-14.85,-10.75) 49(-14.85,-11.25) 50(-14.85,-11.75) 51(-14.85,-12.25) 52(-14.85,-12.75) 105(14.85,-12.75) 106(14.85,-12.25) 107(14.85,-11.75) 108(14.85,-11.25) 109(14.85,-10.75) 110(14.85,-10.25) 111(14.85,-9.75) 112(14.85,-9.25) 113(14.85,-8.75) 114(14.85,-8.25) 115(14.85,-7.75) 116(14.85,-7.25) 117(14.85,-6.75) 118(14.85,-6.25) 119(14.85,-5.75) 120(14.85,-5.25) 121(14.85,-4.75) 122(14.85,-4.25) 123(14.85,-3.75) 124(14.85,-3.25) 125(14.85,-2.75) 126(14.85,-2.25) 127(14.85,-1.75) 128(14.85,-1.25) 129(14.85,-0.75) 130(14.85,-0.25) 131(14.85,0.25) 132(14.85,0.75) 133(14.85,1.25) 134(14.85,1.75) 135(14.85,2.25) 136(14.85,2.75) 137(14.85,3.25) 138(14.85,3.75) 139(14.85,4.25) 140(14.85,4.75) 141(14.85,5.25) 142(14.85,5.75) 143(14.85,6.25) 144(14.85,6.75) 145(14.85,7.25) 146(14.85,7.75) 147(14.85,8.25) 148(14.85,8.75) 149(14.85,9.25) 150(14.85,9.75) 151(14.85,10.25) 152(14.85,10.75) 153(14.85,11.25) 154(14.85,11.75) 155(14.85,12.25) 156(14.85,12.75)
  oval 0.3x1.8 smd: 53(-12.75,-14.85) 54(-12.25,-14.85) 55(-11.75,-14.85) 56(-11.25,-14.85) 57(-10.75,-14.85) 58(-10.25,-14.85) 59(-9.75,-14.85) 60(-9.25,-14.85) 61(-8.75,-14.85) 62(-8.25,-14.85) 63(-7.75,-14.85) 64(-7.25,-14.85) 65(-6.75,-14.85) 66(-6.25,-14.85) 67(-5.75,-14.85) 68(-5.25,-14.85) 69(-4.75,-14.85) 70(-4.25,-14.85) 71(-3.75,-14.85) 72(-3.25,-14.85) 73(-2.75,-14.85) 74(-2.25,-14.85) 75(-1.75,-14.85) 76(-1.25,-14.85) 77(-0.75,-14.85) 78(-0.25,-14.85) 79(0.25,-14.85) 80(0.75,-14.85) 81(1.25,-14.85) 82(1.75,-14.85) 83(2.25,-14.85) 84(2.75,-14.85) 85(3.25,-14.85) 86(3.75,-14.85) 87(4.25,-14.85) 88(4.75,-14.85) 89(5.25,-14.85) 90(5.75,-14.85) 91(6.25,-14.85) 92(6.75,-14.85) 93(7.25,-14.85) 94(7.75,-14.85) 95(8.25,-14.85) 96(8.75,-14.85) 97(9.25,-14.85) 98(9.75,-14.85) 99(10.25,-14.85) 100(10.75,-14.85) 101(11.25,-14.85) 102(11.75,-14.85) 103(12.25,-14.85) 104(12.75,-14.85) 157(12.75,14.85) 158(12.25,14.85) 159(11.75,14.85) 160(11.25,14.85) 161(10.75,14.85) 162(10.25,14.85) 163(9.75,14.85) 164(9.25,14.85) 165(8.75,14.85) 166(8.25,14.85) 167(7.75,14.85) 168(7.25,14.85) 169(6.75,14.85) 170(6.25,14.85) 171(5.75,14.85) 172(5.25,14.85) 173(4.75,14.85) 174(4.25,14.85) 175(3.75,14.85) 176(3.25,14.85) 177(2.75,14.85) 178(2.25,14.85) 179(1.75,14.85) 180(1.25,14.85) 181(0.75,14.85) 182(0.25,14.85) 183(-0.25,14.85) 184(-0.75,14.85) 185(-1.25,14.85) 186(-1.75,14.85) 187(-2.25,14.85) 188(-2.75,14.85) 189(-3.25,14.85) 190(-3.75,14.85) 191(-4.25,14.85) 192(-4.75,14.85) 193(-5.25,14.85) 194(-5.75,14.85) 195(-6.25,14.85) 196(-6.75,14.85) 197(-7.25,14.85) 198(-7.75,14.85) 199(-8.25,14.85) 200(-8.75,14.85) 201(-9.25,14.85) 202(-9.75,14.85) 203(-10.25,14.85) 204(-10.75,14.85) 205(-11.25,14.85) 206(-11.75,14.85) 207(-12.25,14.85) 208(-12.75,14.85)
Top Overlay:
  circle w0.6: c-12.55,12.55 r0.3
  circle w0.25: c-14.85,13.45 r0.125
  lines w0.2: -13.55,-13.55 13.55,-13.55 13.55,13.55 -13.55,13.55 -13.55,-13.55
Mechanical 13:
  circle w0.1: c-13.1,13.1 r0.5
  lines w0.1: -14,-14 14,-14 14,14 -14,14 -14,-14
Mechanical 15:
  lines w0.1: -0.5,0 0.5,0 ; 0,-0.5 0,0.5 ; -16,-16 16,-16 16,16 -16,16 -16,-16
3D body: height 4.1, standoff 0, extent -14,-14 14,14

## PSDIP8A [mm] "DIP; 8 Leads; Row Spacing 7.62 mm; Pitch 2.54 mm"
height 5.9
pads (8):
  rect 1.5x1.5 hole 0.9: 1(-3.81,-3.81)
  round 1.5 hole 0.9: 2(-1.27,-3.81) 3(1.27,-3.81) 4(3.81,-3.81) 5(3.81,3.81) 6(1.27,3.81) 7(-1.27,3.81) 8(-3.81,3.81)
Top Overlay:
  lines w0.2: -5.15,-2.65 -5.15,-0.635 ccw(c-5.15,0) -5.15,0.635 -5.15,2.65 5.15,2.65 5.15,-2.65 -5.15,-2.65

## PSDIP8B [mm] "DIP; 8 Leads; Row Spacing 7.62 mm; Pitch 2.54 mm"
height 4.8
pads (8):
  rect 1.5x1.5 hole 0.9: 1(-3.81,-3.81)
  round 1.5 hole 0.9: 2(-1.27,-3.81) 3(1.27,-3.81) 4(3.81,-3.81) 5(3.81,3.81) 6(1.27,3.81) 7(-1.27,3.81) 8(-3.81,3.81)
Top Overlay:
  lines w0.2: -5.15,-2.65 -5.15,-0.635 ccw(c-5.15,0) -5.15,0.635 -5.15,2.65 5.15,2.65 5.15,-2.65 -5.15,-2.65

## PSDIP24 [mm] "DIP; 24 Leads; Row Spacing 7.62 mm; Pitch 1.778 mm"
height 5.08
pads (24):
  rect 1.5x1.5 hole 0.9: 1(-9.79,-3.81)
  round 1.5 hole 0.9: 2(-8.01,-3.81) 3(-6.23,-3.81) 4(-4.45,-3.81) 5(-2.67,-3.81) 6(-0.89,-3.81) 7(0.89,-3.81) 8(2.67,-3.81) 9(4.45,-3.81) 10(6.23,-3.81) 11(8.01,-3.81) 12(9.79,-3.81) 13(9.79,3.81) 14(8.01,3.81) 15(6.23,3.81) 16(4.45,3.81) 17(2.67,3.81) 18(0.89,3.81) 19(-0.89,3.81) 20(-2.67,3.81) 21(-4.45,3.81) 22(-6.23,3.81) 23(-8.01,3.81) 24(-9.79,3.81)
Top Overlay:
  lines w0.2: -11.6,-2.65 -11.6,-0.635 ccw(c-11.6,0) -11.6,0.635 -11.6,2.65 11.6,2.65 11.6,-2.65 -11.6,-2.65

## PSDIP28 [mm] "DIP, Plastic Skinny; 28 Leads; Row Spacing 7.62 mm; Pitch 2.54 mm"
height 4.57
pads (28):
  rect 1.5x1.5 hole 0.9: 1(-16.51,-3.81)
  round 1.5 hole 0.9: 2(-13.97,-3.81) 3(-11.43,-3.81) 4(-8.89,-3.81) 5(-6.35,-3.81) 6(-3.81,-3.81) 7(-1.27,-3.81) 8(1.27,-3.81) 9(3.81,-3.81) 10(6.35,-3.81) 11(8.89,-3.81) 12(11.43,-3.81) 13(13.97,-3.81) 14(16.51,-3.81) 15(16.51,3.81) 16(13.97,3.81) 17(11.43,3.81) 18(8.89,3.81) 19(6.35,3.81) 20(3.81,3.81) 21(1.27,3.81) 22(-1.27,3.81) 23(-3.81,3.81) 24(-6.35,3.81) 25(-8.89,3.81) 26(-11.43,3.81) 27(-13.97,3.81) 28(-16.51,3.81)
Top Overlay:
  lines w0.2: -17.78,-2.225 -17.78,-0.635 ccw(c-17.78,0) -17.78,0.635 -17.78,2.225 17.78,2.225 17.78,-2.225 -17.78,-2.225

## PSDIP32 [mm] "DIP, Plastic Shrink; 32 Leads; Row Spacing 10.16 mm; Pitch 1.78 mm"
height 5.08
pads (32):
  rect 1.5x1.5 hole 0.9: 1(-13.35,-5.08)
  round 1.5 hole 0.9: 2(-11.57,-5.08) 3(-9.79,-5.08) 4(-8.01,-5.08) 5(-6.23,-5.08) 6(-4.45,-5.08) 7(-2.67,-5.08) 8(-0.89,-5.08) 9(0.89,-5.08) 10(2.67,-5.08) 11(4.45,-5.08) 12(6.23,-5.08) 13(8.01,-5.08) 14(9.79,-5.08) 15(11.57,-5.08) 16(13.35,-5.08) 17(13.35,5.08) 18(11.57,5.08) 19(9.79,5.08) 20(8.01,5.08) 21(6.23,5.08) 22(4.45,5.08) 23(2.67,5.08) 24(0.89,5.08) 25(-0.89,5.08) 26(-2.67,5.08) 27(-4.45,5.08) 28(-6.23,5.08) 29(-8.01,5.08) 30(-9.79,5.08) 31(-11.57,5.08) 32(-13.35,5.08)
Top Overlay:
  lines w0.2: -14.25,-0.635 -14.25,-3.9 14.25,-3.9 14.25,3.9 -14.25,3.9 -14.25,0.635 ; -14.24,-0.635 ccw(c-14.24,0) -14.24,0.635

## PSDIP42 [mm] "DIP, Plastic Shrink; 42 Leads; Row Spacing 15.24 mm; Pitch 1.78 mm"
height 5.08
pads (42):
  rect 1.5x1.5 hole 0.9: 1(-17.8,-7.62)
  round 1.5 hole 0.9: 2(-16.02,-7.62) 3(-14.24,-7.62) 4(-12.46,-7.62) 5(-10.68,-7.62) 6(-8.9,-7.62) 7(-7.12,-7.62) 8(-5.34,-7.62) 9(-3.56,-7.62) 10(-1.78,-7.62) 11(0,-7.62) 12(1.78,-7.62) 13(3.56,-7.62) 14(5.34,-7.62) 15(7.12,-7.62) 16(8.9,-7.62) 17(10.68,-7.62) 18(12.46,-7.62) 19(14.24,-7.62) 20(16.02,-7.62) 21(17.8,-7.62) 22(17.8,7.62) 23(16.02,7.62) 24(14.24,7.62) 25(12.46,7.62) 26(10.68,7.62) 27(8.9,7.62) 28(7.12,7.62) 29(5.34,7.62) 30(3.56,7.62) 31(1.78,7.62) 32(0,7.62) 33(-1.78,7.62) 34(-3.56,7.62) 35(-5.34,7.62) 36(-7.12,7.62) 37(-8.9,7.62) 38(-10.68,7.62) 39(-12.46,7.62) 40(-14.24,7.62) 41(-16.02,7.62) 42(-17.8,7.62)
Top Overlay:
  lines w0.2: -18.55,-6.45 18.55,-6.45 18.55,6.45 -18.55,6.45 -18.55,0.635 cw(c-18.55,0) -18.55,-0.635 -18.55,-6.45